# Altium schematic symbol library DS3234.Schlib: 1 symbol
Pins are listed as number, name and electrical type; pins without a type are passive.

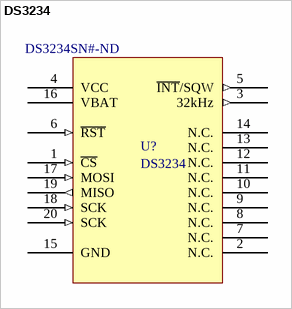
[diagram p0: symbol DS3234]

## DS3234
designator U?  Supplier Part Number 1: DS3234SN#-ND
SPI bus RTC with integrated crystal and SRAM; Supplier 1: Digi-Key
footprint SOIC127P1032X265-20 (SOIC127P + Nominal Lead Length X Height - Pin #)
pins: 1 ~{CS} (in), 2 N.C., 3 32kHz (out), 4 VCC (power), 5 ~{INT}/SQW (out), 6 ~{RST} (in), 7 N.C., 8 N.C., 9 N.C., 10 N.C., 11 N.C., 12 N.C., 13 N.C., 14 N.C., 15 GND (power), 16 VBAT (power), 17 MOSI (in), 18 SCK (in), 19 MISO (out), 20 SCK (in)